# Altium schematic symbol library TagConnect-20Apr2013.SchLib: 3 symbols
Pins are listed as number, name and electrical type; pins without a type are passive.

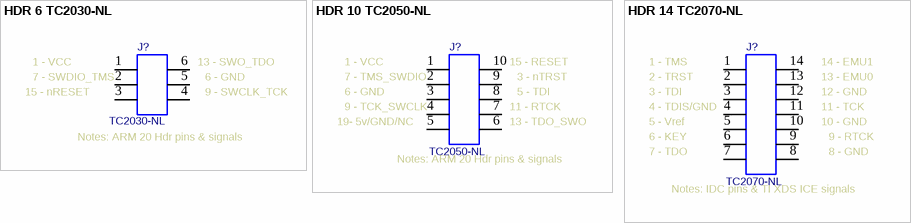
[diagram p0: symbols HDR 6 TC2030-NL to HDR 14 TC2070-NL]

## HDR 6 TC2030-NL
designator J?, comment TC2030-NL  (no BOM)
HDR, TC2030, 6 Pin, Footprint only; Mfg-1: Tag-Connect; Mfg-1-P/N: TC2030-IDC-NL; Value: TC2030-NL
footprint TC2030-NL (Target for Tag Connect TC2030-xxx-NL)
pins: 1, 2, 3, 4, 5, 6
text: 1 - VCC; 13 - SWO_TDO; 7 - SWDIO_TMS; 6 - GND; 15 - nRESET; 9 - SWCLK_TCK; Notes: ARM 20 Hdr pins & signals

## HDR 10 TC2050-NL
designator J?, comment TC2050-NL  (no BOM)
HDR, TC2050, 10 Pin, Footprint only; Mfg-1: Tag-Connect; Mfg-1-P/N: TC2050-IDC-NL; Value: TC2050-NL
footprint TC2050-NL (Target for Tag Copnnect TC2050-xxx-NL)
pins: 1, 2, 3, 4, 5, 6, 7, 8, 9, 10
text: 1 - VCC; 15 - RESET; 7 - TMS_SWDIO; 3 - nTRST; 6 - GND; 5 - TDI; 9 - TCK_SWCLK; 11 - RTCK; 19- 5v/GND/NC; 13 - TDO_SWO; Notes: ARM 20 Hdr pins & signals

## HDR 14 TC2070-NL
designator J?, comment TC2070-NL  (no BOM)
HDR, TC2070, 14 Pin, Footprint only; Mfg-1: Tag-Connect; Mfg-1-P/N: TC2070-IDC-NL; Value: TC2070-NL
footprint TC2070-xxx-NL (Tag-Connect TC2070 No Leg, Footprint only.)
pins: 1, 2, 3, 4, 5, 6, 7, 8, 9, 10, 11, 12, 13, 14
text: 1 - TMS; 14 - EMU1; 2 - TRST; 13 - EMU0; 3 - TDI; 12 - GND; 4 - TDIS/GND; 11 - TCK; 5 - Vref; 10 - GND; 6 - KEY; 9 - RTCK; 7 - TDO; 8 - GND; Notes: IDC pins & TI XDS ICE signals